# Altium footprint library PCB - POWER INDUCTORS - PANASONIC ETQP4MxxxKVK.PcbLib: 1 footprints
Each footprint in its own frame and in the unit in brackets; x right, y up, seen from the top. Pads: shape width x height; smd on the part's side, far side on the other; paste and mask are expansions set on the pad; w line width, h text height; cw(c..) or ccw(c..) is an arc to the next point about the centre after c.
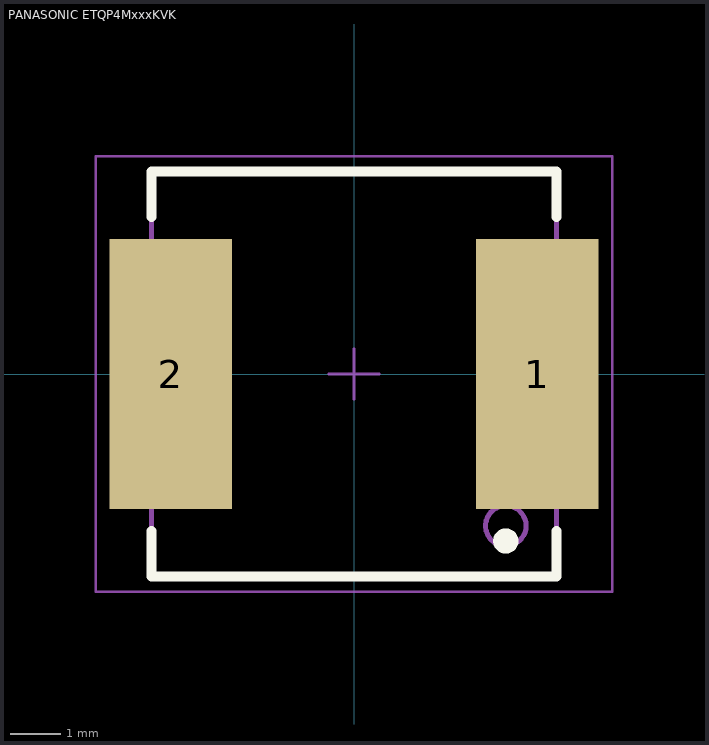
[diagram p0: the footprint, top view; thin cyan lines are the x and y axes]

## PANASONIC ETQP4MxxxKVK [mil] "SMD Power Inductor, 2-Leads, body 8x8mm"
height 157.48
pads (2):
  rect 95x210 smd: 1(142.5,0) 2(-142.5,0)
Top Overlay:
  circle w9.84: c118.11,-129.92 r4.92
  lines w7.87: -157.48,-122.05 -157.48,-157.48 157.48,-157.48 157.48,-122.05 ; -157.48,122.05 -157.48,157.48 157.48,157.48 157.48,122.05
Top 3D Body:
  circle w3.94: c118.11,-118.11 r15.75
  lines w3.94: -157.48,-157.48 -157.48,157.48 157.48,157.48 157.48,-157.48 -157.48,-157.48
Top Component Outline:
  circle w3.94: c118.11,-118.11 r15.75
  lines w3.94: -157.48,-157.48 -157.48,157.48 157.48,157.48 157.48,-157.48 -157.48,-157.48
Top Courtyard:
  lines w1.97: -19.68,0 19.68,0 ; 0,-19.68 0,19.68 ; -200.79,-169.29 200.79,-169.29 200.79,169.29 -200.79,169.29 -200.79,-169.29
3D body "Panasonic - ETQP4MxxxKVK.step": height 157.48, standoff 0, extent -167.32,-157.48 167.33,157.48